# Altium integrated library MLF2012C101MTD25.IntLib: 1 symbol
Pins are listed as number, name and electrical type; pins without a type are passive.

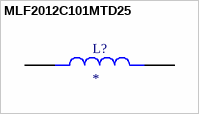
[diagram p0: symbol MLF2012C101MTD25]

## MLF2012C101MTD25
designator L?
100ÂµH Shielded Multilayer Inductor 2mA 3.1Ohm Max 0805 (2012 Metric); MF: TDK; MP: MLF2012C101MTD25; SnapEDA_Link: https://www.snapeda.com/parts/MLF2012C101MTD25/TDK/view-part/?ref=snap; Package: 0805 TDK Corporation; Value: *; Check_prices: https://www.snapeda.com/parts/MLF2012C101MTD25/TDK/view-part/?ref=eda
footprint INDC2012X145N
pins: 1, 2